# Altium footprint library Flex_R_1206(3216).PcbLib: 1 footprints
Each footprint in its own frame and in the unit in brackets; x right, y up, seen from the top. Pads: shape width x height; smd on the part's side, far side on the other; paste and mask are expansions set on the pad; w line width, h text height; cw(c..) or ccw(c..) is an arc to the next point about the centre after c.
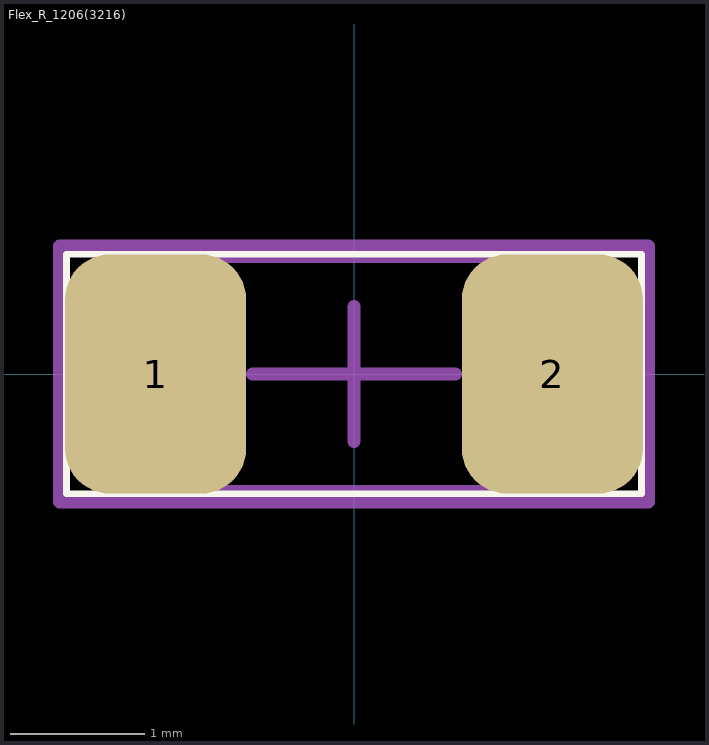
[diagram p0: the footprint, top view; thin cyan lines are the x and y axes]

## Flex_R_1206(3216) [mil] "Chip Resistor, Body 3.2x1.6mm, Flex"
height 27.95
pads (2):
  rrect50% 53x70 smd paste-7.87 mask-4.02: 1(-58,0) 2(58,0)
Top Overlay:
  lines w2: -84,-35 -84,35 84,35 84,-35 -74.37,-35 -84,-35
Mechanical 13:
  lines w3.94: -65.94,-34.45 65.94,-34.45 65.94,34.45 -65.94,34.45 -65.94,-34.45
Mechanical 15:
  lines w3.94: -29.53,0 29.53,0 ; -19.68,0 19.68,0 ; 0,-19.68 0,19.69 ; -86,-37.4 86,-37.4 86,37.4 -86,37.4 -86,-37.4
3D body: height 27.95, standoff 0, extent -65.94,-34.45 65.94,34.45